# Altium integrated library Actel ProASIC APA FPGA.IntLib: 439 symbols (part 1 of 3)
Pins are listed as number, name and electrical type; pins without a type are passive.

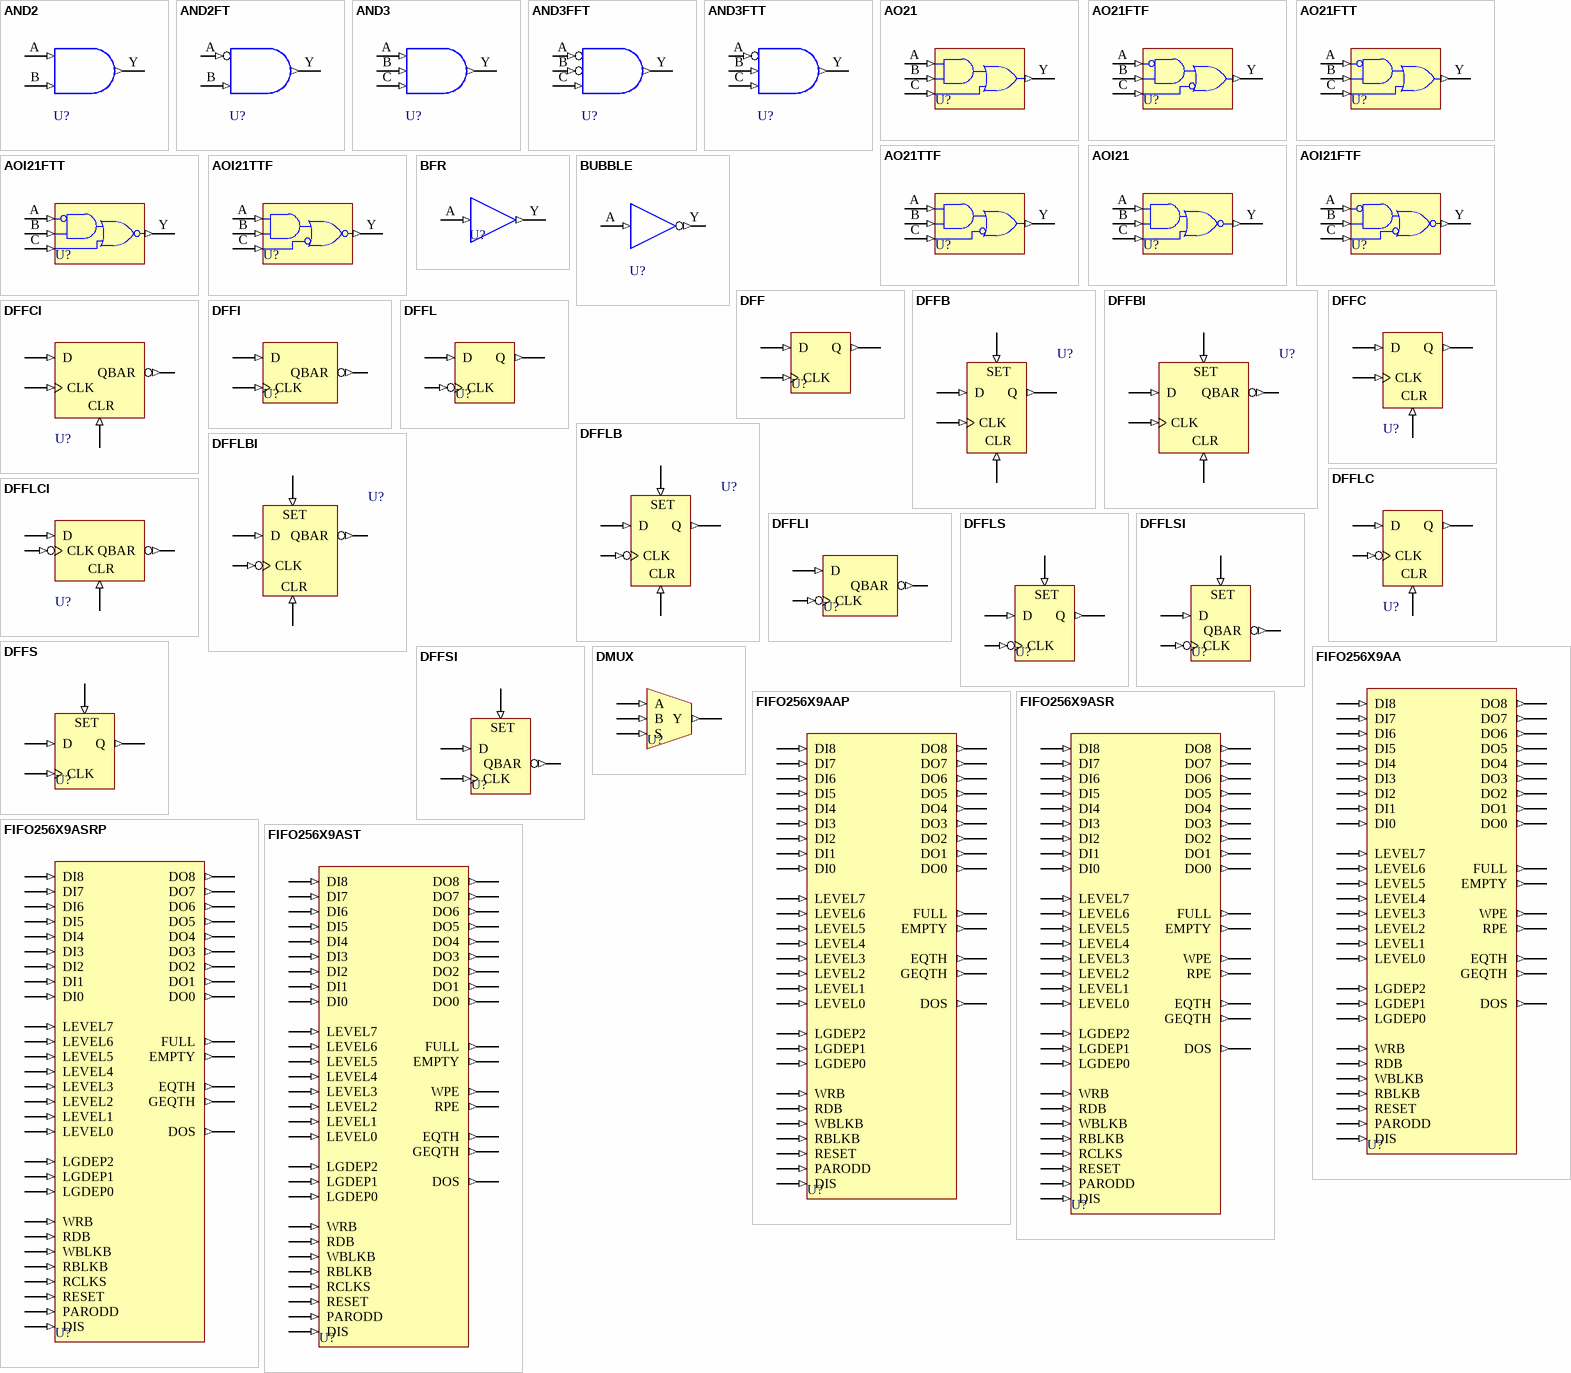
[diagram p0: symbols AND2 to FIFO256X9AST]

## AND2
designator U?
2 Input AND; FPGAVendor: Actel; Published: 21-Jul-2004; Publisher: Altium Limited; HelpURL: http://www.actel.com/documents/PA_libguide.pdf
pins: A (in), B (in), Y (out)

## AND2FT
designator U?
2 Input AND with Active Low A Input; FPGAVendor: Actel; Published: 21-Jul-2004; Publisher: Altium Limited; HelpURL: http://www.actel.com/documents/PA_libguide.pdf
pins: A (in), B (in), Y (out)

## AND3
designator U?
3 Input AND; FPGAVendor: Actel; Published: 21-Jul-2004; Publisher: Altium Limited; HelpURL: http://www.actel.com/documents/PA_libguide.pdf
pins: A (in), B (in), C (in), Y (out)

## AND3FFT
designator U?
3 Input AND with Active Low A and B Inputs; FPGAVendor: Actel; Published: 21-Jul-2004; Publisher: Altium Limited; HelpURL: http://www.actel.com/documents/PA_libguide.pdf
pins: A (in), B (in), C (in), Y (out)

## AND3FTT
designator U?
3 Input AND with Active Low A Input; FPGAVendor: Actel; Published: 21-Jul-2004; Publisher: Altium Limited; HelpURL: http://www.actel.com/documents/PA_libguide.pdf
pins: A (in), B (in), C (in), Y (out)

## AO21
designator U?
3 Input AND-OR; FPGAVendor: Actel; Published: 21-Jul-2004; Publisher: Altium Limited; HelpURL: http://www.actel.com/documents/PA_libguide.pdf
pins: A (in), B (in), C (in), Y (out)

## AO21FTF
designator U?
3 Input AND-OR with Active Low A and C Inputs; FPGAVendor: Actel; Published: 21-Jul-2004; Publisher: Altium Limited; HelpURL: http://www.actel.com/documents/PA_libguide.pdf
pins: A (in), B (in), C (in), Y (out)

## AO21FTT
designator U?
3 Input AND-OR with Active Low A Input; FPGAVendor: Actel; Published: 21-Jul-2004; Publisher: Altium Limited; HelpURL: http://www.actel.com/documents/PA_libguide.pdf
pins: A (in), B (in), C (in), Y (out)

## AO21TTF
designator U?
3 Input AND-OR with Active Low C Input; FPGAVendor: Actel; Published: 21-Jul-2004; Publisher: Altium Limited; HelpURL: http://www.actel.com/documents/PA_libguide.pdf
pins: A (in), B (in), C (in), Y (out)

## AOI21
designator U?
3 Input AND-OR-INVERT; FPGAVendor: Actel; Published: 21-Jul-2004; Publisher: Altium Limited; HelpURL: http://www.actel.com/documents/PA_libguide.pdf
pins: A (in), B (in), C (in), Y (out)

## AOI21FTF
designator U?
3 Input AND-OR-INVERT with Active Low A and C Inputs; FPGAVendor: Actel; Published: 21-Jul-2004; Publisher: Altium Limited; HelpURL: http://www.actel.com/documents/PA_libguide.pdf
pins: A (in), B (in), C (in), Y (out)

## AOI21FTT
designator U?
3 Input AND-OR-INVERT with Active Low A Input; FPGAVendor: Actel; Published: 21-Jul-2004; Publisher: Altium Limited; HelpURL: http://www.actel.com/documents/PA_libguide.pdf
pins: A (in), B (in), C (in), Y (out)

## AOI21TTF
designator U?
3 Input AND-OR-INVERT with Active Low C Input; FPGAVendor: Actel; Published: 21-Jul-2004; Publisher: Altium Limited; HelpURL: http://www.actel.com/documents/PA_libguide.pdf
pins: A (in), B (in), C (in), Y (out)

## BFR
designator U?
Buffer; FPGAVendor: Actel; Published: 21-Jul-2004; Publisher: Altium Limited; HelpURL: http://www.actel.com/documents/PA_libguide.pdf
pins: A (in), Y (out)

## BUBBLE
designator U?
Inverter (Only for internal embedded memory); FPGAVendor: Actel; Published: 21-Jul-2004; Publisher: Altium Limited; HelpURL: http://www.actel.com/documents/PA_libguide.pdf
pins: A (in), Y (out)

## DFF
designator U?
Positive Edge Triggered D-Type Flip-Flop; FPGAVendor: Actel; Published: 21-Jul-2004; Publisher: Altium Limited; HelpURL: http://www.actel.com/documents/PA_libguide.pdf
pins: CLK (in), D (in), Q (out)

## DFFB
designator U?
Positive Edge Triggered D-Type Flip-Flop with Active High Set and Clear; FPGAVendor: Actel; Published: 21-Jul-2004; Publisher: Altium Limited; HelpURL: http://www.actel.com/documents/PA_libguide.pdf
pins: CLK (in), CLR (in), D (in), Q (out), SET (in)

## DFFBI
designator U?
Positive Edge Triggered D-Type Flip-Flop with Active High Set and Clear / and Active Low Output; FPGAVendor: Actel; Published: 21-Jul-2004; Publisher: Altium Limited; HelpURL: http://www.actel.com/documents/PA_libguide.pdf
pins: CLK (in), CLR (in), D (in), QBAR (out), SET (in)

## DFFC
designator U?
Positive Edge Triggered D-Type Flip-Flop with Active High Clear; FPGAVendor: Actel; Published: 21-Jul-2004; Publisher: Altium Limited; HelpURL: http://www.actel.com/documents/PA_libguide.pdf
pins: CLK (in), CLR (in), D (in), Q (out)

## DFFCI
designator U?
Positive Edge Triggered D-Type Flip-Flop with Active High Clear and / Active Low Output; FPGAVendor: Actel; Published: 21-Jul-2004; Publisher: Altium Limited; HelpURL: http://www.actel.com/documents/PA_libguide.pdf
pins: CLK (in), CLR (in), D (in), QBAR (out)

## DFFI
designator U?
Positive Edge Triggered D-Type Flip-Flop with Active Low Output; FPGAVendor: Actel; Published: 21-Jul-2004; Publisher: Altium Limited; HelpURL: http://www.actel.com/documents/PA_libguide.pdf
pins: CLK (in), D (in), QBAR (out)

## DFFL
designator U?
Negative Edge Triggered D-Type Flip-Flop; FPGAVendor: Actel; Published: 21-Jul-2004; Publisher: Altium Limited; HelpURL: http://www.actel.com/documents/PA_libguide.pdf
pins: CLK (in), D (in), Q (out)

## DFFLB
designator U?
Negative Edge Triggered D-Type Flip-Flop with Active High Set and Clear; FPGAVendor: Actel; Published: 21-Jul-2004; Publisher: Altium Limited; HelpURL: http://www.actel.com/documents/PA_libguide.pdf
pins: CLK (in), CLR (in), D (in), Q (out), SET (in)

## DFFLBI
designator U?
Negative Edge Triggered D-Type Flip-Flop with Active High Set and Clear / and Active Low Output; FPGAVendor: Actel; Published: 21-Jul-2004; Publisher: Altium Limited; HelpURL: http://www.actel.com/documents/PA_libguide.pdf
pins: CLK (in), CLR (in), D (in), QBAR (out), SET (in)

## DFFLC
designator U?
Negative Edge Triggered D-Type Flip-Flop with Active High Clear; FPGAVendor: Actel; Published: 21-Jul-2004; Publisher: Altium Limited; HelpURL: http://www.actel.com/documents/PA_libguide.pdf
pins: CLK (in), CLR (in), D (in), Q (out)

## DFFLCI
designator U?
Negative Edge Triggered D-Type Flip-Flop with Active High Clear and / Active Low Output; FPGAVendor: Actel; Published: 21-Jul-2004; Publisher: Altium Limited; HelpURL: http://www.actel.com/documents/PA_libguide.pdf
pins: CLK (in), CLR (in), D (in), QBAR (out)

## DFFLI
designator U?
Negative Edge Triggered D-Type Flip-Flop with Active Low Output; FPGAVendor: Actel; Published: 21-Jul-2004; Publisher: Altium Limited; HelpURL: http://www.actel.com/documents/PA_libguide.pdf
pins: CLK (in), D (in), QBAR (out)

## DFFLS
designator U?
Negative Edge Triggered D-Type Flip-Flop with Active High Set; FPGAVendor: Actel; Published: 21-Jul-2004; Publisher: Altium Limited; HelpURL: http://www.actel.com/documents/PA_libguide.pdf
pins: CLK (in), D (in), Q (out), SET (in)

## DFFLSI
designator U?
Negative Edge Triggered D-Type Flip-Flop with Active High Set and / Active Low Output; FPGAVendor: Actel; Published: 21-Jul-2004; Publisher: Altium Limited; HelpURL: http://www.actel.com/documents/PA_libguide.pdf
pins: CLK (in), D (in), QBAR (out), SET (in)

## DFFS
designator U?
Positive Edge Triggered D-Type Flip-Flop with Active High Set; FPGAVendor: Actel; Published: 21-Jul-2004; Publisher: Altium Limited; HelpURL: http://www.actel.com/documents/PA_libguide.pdf
pins: CLK (in), D (in), Q (out), SET (in)

## DFFSI
designator U?
Positive Edge Triggered D-Type Flip-Flop with Active High Set and Active / Low Output; FPGAVendor: Actel; Published: 21-Jul-2004; Publisher: Altium Limited; HelpURL: http://www.actel.com/documents/PA_libguide.pdf
pins: CLK (in), D (in), QBAR (out), SET (in)

## DMUX
designator U?
2 to 1 Multiplexer; FPGAVendor: Actel; Published: 21-Jul-2004; Publisher: Altium Limited; HelpURL: http://www.actel.com/documents/PA_libguide.pdf
pins: A (in), B (in), S (in), Y (out)

## FIFO256X9AA
designator U?
Asynchronous Write/Asynchronous Read FIFO with Parity Checking; FPGAVendor: Actel; Published: 21-Jul-2004; Publisher: Altium Limited; HelpURL: http://www.actel.com/documents/PA_libguide.pdf
pins: DI0 (in), DI1 (in), DI2 (in), DI3 (in), DI4 (in), DI5 (in), DI6 (in), DI7 (in), DI8 (in), DIS (in), DO0 (out), DO1 (out), DO2 (out), DO3 (out), DO4 (out), DO5 (out), DO6 (out), DO7 (out), DO8 (out), DOS (out), EMPTY (out), EQTH (out), FULL (out), GEQTH (out), LEVEL0 (in), LEVEL1 (in), LEVEL2 (in), LEVEL3 (in), LEVEL4 (in), LEVEL5 (in), LEVEL6 (in), LEVEL7 (in), LGDEP0 (in), LGDEP1 (in), LGDEP2 (in), PARODD (in), RBLKB (in), RDB (in), RESET (in), RPE (out), WBLKB (in), WPE (out), WRB (in)

## FIFO256X9AAP
designator U?
Asynchronous Write/Asynchronous Read FIFO with Parity Generation; FPGAVendor: Actel; Published: 21-Jul-2004; Publisher: Altium Limited; HelpURL: http://www.actel.com/documents/PA_libguide.pdf
pins: DI0 (in), DI1 (in), DI2 (in), DI3 (in), DI4 (in), DI5 (in), DI6 (in), DI7 (in), DI8 (in), DIS (in), DO0 (out), DO1 (out), DO2 (out), DO3 (out), DO4 (out), DO5 (out), DO6 (out), DO7 (out), DO8 (out), DOS (out), EMPTY (out), EQTH (out), FULL (out), GEQTH (out), LEVEL0 (in), LEVEL1 (in), LEVEL2 (in), LEVEL3 (in), LEVEL4 (in), LEVEL5 (in), LEVEL6 (in), LEVEL7 (in), LGDEP0 (in), LGDEP1 (in), LGDEP2 (in), PARODD (in), RBLKB (in), RDB (in), RESET (in), WBLKB (in), WRB (in)

## FIFO256X9ASR
designator U?
Asynchronous Write/Synchronous Read FIFO with Registered Output and Parity Checking; FPGAVendor: Actel; Published: 21-Jul-2004; Publisher: Altium Limited; HelpURL: http://www.actel.com/documents/PA_libguide.pdf
pins: DI0 (in), DI1 (in), DI2 (in), DI3 (in), DI4 (in), DI5 (in), DI6 (in), DI7 (in), DI8 (in), DIS (in), DO0 (out), DO1 (out), DO2 (out), DO3 (out), DO4 (out), DO5 (out), DO6 (out), DO7 (out), DO8 (out), DOS (out), EMPTY (out), EQTH (out), FULL (out), GEQTH (out), LEVEL0 (in), LEVEL1 (in), LEVEL2 (in), LEVEL3 (in), LEVEL4 (in), LEVEL5 (in), LEVEL6 (in), LEVEL7 (in), LGDEP0 (in), LGDEP1 (in), LGDEP2 (in), PARODD (in), RBLKB (in), RCLKS (in), RDB (in), RESET (in), RPE (out), WBLKB (in), WPE (out), WRB (in)

## FIFO256X9ASRP
designator U?
Asynchronous Write/Synchronous Read FIFO with Registered Output and Parity Generation; FPGAVendor: Actel; Published: 21-Jul-2004; Publisher: Altium Limited; HelpURL: http://www.actel.com/documents/PA_libguide.pdf
pins: DI0 (in), DI1 (in), DI2 (in), DI3 (in), DI4 (in), DI5 (in), DI6 (in), DI7 (in), DI8 (in), DIS (in), DO0 (out), DO1 (out), DO2 (out), DO3 (out), DO4 (out), DO5 (out), DO6 (out), DO7 (out), DO8 (out), DOS (out), EMPTY (out), EQTH (out), FULL (out), GEQTH (out), LEVEL0 (in), LEVEL1 (in), LEVEL2 (in), LEVEL3 (in), LEVEL4 (in), LEVEL5 (in), LEVEL6 (in), LEVEL7 (in), LGDEP0 (in), LGDEP1 (in), LGDEP2 (in), PARODD (in), RBLKB (in), RCLKS (in), RDB (in), RESET (in), WBLKB (in), WRB (in)

## FIFO256X9AST
designator U?
Asynchronous Write/Synchronous Read FIFO with Transparent Output and Parity Checking; FPGAVendor: Actel; Published: 21-Jul-2004; Publisher: Altium Limited; HelpURL: http://www.actel.com/documents/PA_libguide.pdf
pins: DI0 (in), DI1 (in), DI2 (in), DI3 (in), DI4 (in), DI5 (in), DI6 (in), DI7 (in), DI8 (in), DIS (in), DO0 (out), DO1 (out), DO2 (out), DO3 (out), DO4 (out), DO5 (out), DO6 (out), DO7 (out), DO8 (out), DOS (out), EMPTY (out), EQTH (out), FULL (out), GEQTH (out), LEVEL0 (in), LEVEL1 (in), LEVEL2 (in), LEVEL3 (in), LEVEL4 (in), LEVEL5 (in), LEVEL6 (in), LEVEL7 (in), LGDEP0 (in), LGDEP1 (in), LGDEP2 (in), PARODD (in), RBLKB (in), RCLKS (in), RDB (in), RESET (in), RPE (out), WBLKB (in), WPE (out), WRB (in)

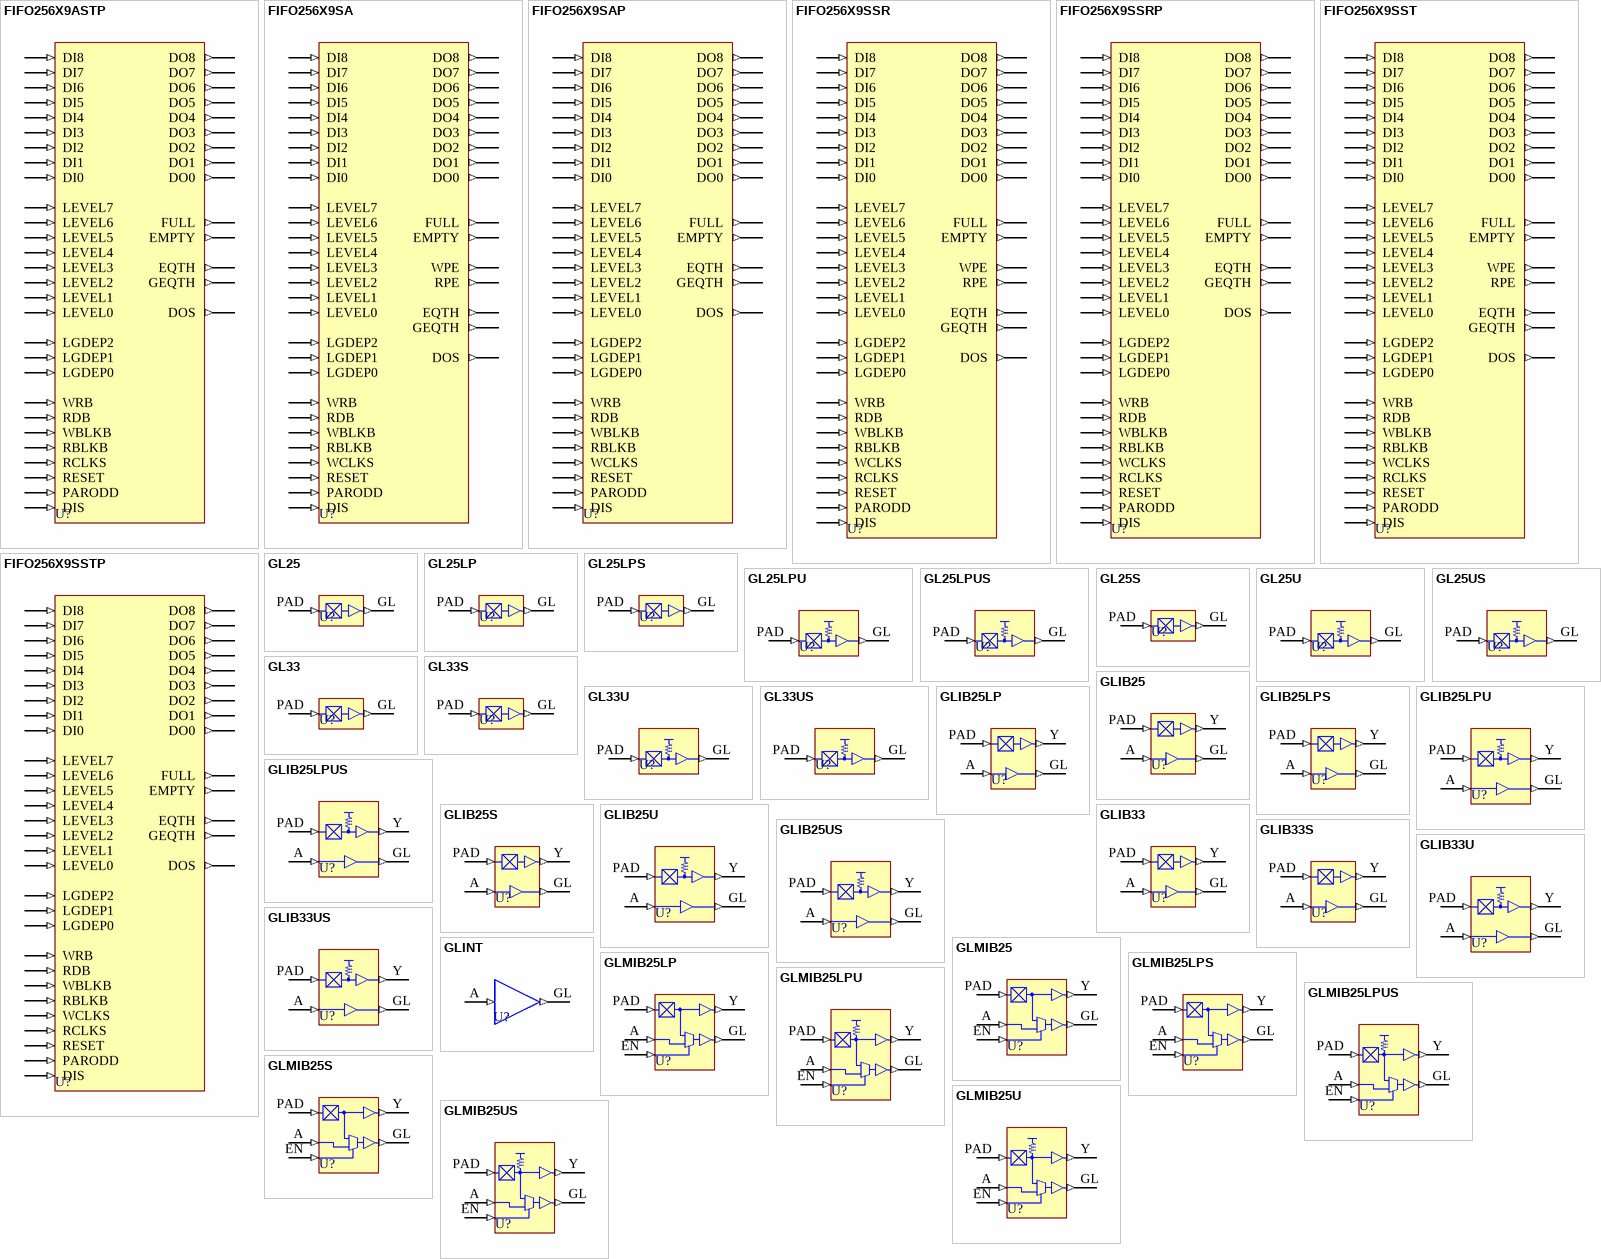
[diagram p1: symbols FIFO256X9ASTP to GLMIB25US]

## FIFO256X9ASTP
designator U?
Asynchronous Write/Synchronous Read FIFO with Transparent Output and Parity Generation; FPGAVendor: Actel; Published: 21-Jul-2004; Publisher: Altium Limited; HelpURL: http://www.actel.com/documents/PA_libguide.pdf
pins: DI0 (in), DI1 (in), DI2 (in), DI3 (in), DI4 (in), DI5 (in), DI6 (in), DI7 (in), DI8 (in), DIS (in), DO0 (out), DO1 (out), DO2 (out), DO3 (out), DO4 (out), DO5 (out), DO6 (out), DO7 (out), DO8 (out), DOS (out), EMPTY (out), EQTH (out), FULL (out), GEQTH (out), LEVEL0 (in), LEVEL1 (in), LEVEL2 (in), LEVEL3 (in), LEVEL4 (in), LEVEL5 (in), LEVEL6 (in), LEVEL7 (in), LGDEP0 (in), LGDEP1 (in), LGDEP2 (in), PARODD (in), RBLKB (in), RCLKS (in), RDB (in), RESET (in), WBLKB (in), WRB (in)

## FIFO256X9SA
designator U?
Synchronous Write/Asynchronous Read FIFO with Parity Checking; FPGAVendor: Actel; Published: 21-Jul-2004; Publisher: Altium Limited; HelpURL: http://www.actel.com/documents/PA_libguide.pdf
pins: DI0 (in), DI1 (in), DI2 (in), DI3 (in), DI4 (in), DI5 (in), DI6 (in), DI7 (in), DI8 (in), DIS (in), DO0 (out), DO1 (out), DO2 (out), DO3 (out), DO4 (out), DO5 (out), DO6 (out), DO7 (out), DO8 (out), DOS (out), EMPTY (out), EQTH (out), FULL (out), GEQTH (out), LEVEL0 (in), LEVEL1 (in), LEVEL2 (in), LEVEL3 (in), LEVEL4 (in), LEVEL5 (in), LEVEL6 (in), LEVEL7 (in), LGDEP0 (in), LGDEP1 (in), LGDEP2 (in), PARODD (in), RBLKB (in), RDB (in), RESET (in), RPE (out), WBLKB (in), WCLKS (in), WPE (out), WRB (in)

## FIFO256X9SAP
designator U?
Synchronous Write/Asynchronous Read FIFO with Parity Generation; FPGAVendor: Actel; Published: 21-Jul-2004; Publisher: Altium Limited; HelpURL: http://www.actel.com/documents/PA_libguide.pdf
pins: DI0 (in), DI1 (in), DI2 (in), DI3 (in), DI4 (in), DI5 (in), DI6 (in), DI7 (in), DI8 (in), DIS (in), DO0 (out), DO1 (out), DO2 (out), DO3 (out), DO4 (out), DO5 (out), DO6 (out), DO7 (out), DO8 (out), DOS (out), EMPTY (out), EQTH (out), FULL (out), GEQTH (out), LEVEL0 (in), LEVEL1 (in), LEVEL2 (in), LEVEL3 (in), LEVEL4 (in), LEVEL5 (in), LEVEL6 (in), LEVEL7 (in), LGDEP0 (in), LGDEP1 (in), LGDEP2 (in), PARODD (in), RBLKB (in), RDB (in), RESET (in), WBLKB (in), WCLKS (in), WRB (in)

## FIFO256X9SSR
designator U?
Synchronous Write/Synchronous Read FIFO with Registered Output and Parity Checking; FPGAVendor: Actel; Published: 21-Jul-2004; Publisher: Altium Limited; HelpURL: http://www.actel.com/documents/PA_libguide.pdf
pins: DI0 (in), DI1 (in), DI2 (in), DI3 (in), DI4 (in), DI5 (in), DI6 (in), DI7 (in), DI8 (in), DIS (in), DO0 (out), DO1 (out), DO2 (out), DO3 (out), DO4 (out), DO5 (out), DO6 (out), DO7 (out), DO8 (out), DOS (out), EMPTY (out), EQTH (out), FULL (out), GEQTH (out), LEVEL0 (in), LEVEL1 (in), LEVEL2 (in), LEVEL3 (in), LEVEL4 (in), LEVEL5 (in), LEVEL6 (in), LEVEL7 (in), LGDEP0 (in), LGDEP1 (in), LGDEP2 (in), PARODD (in), RBLKB (in), RCLKS (in), RDB (in), RESET (in), RPE (out), WBLKB (in), WCLKS (in), WPE (out), WRB (in)

## FIFO256X9SSRP
designator U?
Synchronous Write/Synchronous Read FIFO with Registered Output and Parity Generation; FPGAVendor: Actel; Published: 21-Jul-2004; Publisher: Altium Limited; HelpURL: http://www.actel.com/documents/PA_libguide.pdf
pins: DI0 (in), DI1 (in), DI2 (in), DI3 (in), DI4 (in), DI5 (in), DI6 (in), DI7 (in), DI8 (in), DIS (in), DO0 (out), DO1 (out), DO2 (out), DO3 (out), DO4 (out), DO5 (out), DO6 (out), DO7 (out), DO8 (out), DOS (out), EMPTY (out), EQTH (out), FULL (out), GEQTH (out), LEVEL0 (in), LEVEL1 (in), LEVEL2 (in), LEVEL3 (in), LEVEL4 (in), LEVEL5 (in), LEVEL6 (in), LEVEL7 (in), LGDEP0 (in), LGDEP1 (in), LGDEP2 (in), PARODD (in), RBLKB (in), RCLKS (in), RDB (in), RESET (in), WBLKB (in), WCLKS (in), WRB (in)

## FIFO256X9SST
designator U?
Synchronous Write/Synchronous Read FIFO with Transparent Output and Parity Checking; FPGAVendor: Actel; Published: 21-Jul-2004; Publisher: Altium Limited; HelpURL: http://www.actel.com/documents/PA_libguide.pdf
pins: DI0 (in), DI1 (in), DI2 (in), DI3 (in), DI4 (in), DI5 (in), DI6 (in), DI7 (in), DI8 (in), DIS (in), DO0 (out), DO1 (out), DO2 (out), DO3 (out), DO4 (out), DO5 (out), DO6 (out), DO7 (out), DO8 (out), DOS (out), EMPTY (out), EQTH (out), FULL (out), GEQTH (out), LEVEL0 (in), LEVEL1 (in), LEVEL2 (in), LEVEL3 (in), LEVEL4 (in), LEVEL5 (in), LEVEL6 (in), LEVEL7 (in), LGDEP0 (in), LGDEP1 (in), LGDEP2 (in), PARODD (in), RBLKB (in), RCLKS (in), RDB (in), RESET (in), RPE (out), WBLKB (in), WCLKS (in), WPE (out), WRB (in)

## FIFO256X9SSTP
designator U?
Synchronous Write/Synchronous Read FIFO with Transparent Output and Parity Generation; FPGAVendor: Actel; Published: 21-Jul-2004; Publisher: Altium Limited; HelpURL: http://www.actel.com/documents/PA_libguide.pdf
pins: DI0 (in), DI1 (in), DI2 (in), DI3 (in), DI4 (in), DI5 (in), DI6 (in), DI7 (in), DI8 (in), DIS (in), DO0 (out), DO1 (out), DO2 (out), DO3 (out), DO4 (out), DO5 (out), DO6 (out), DO7 (out), DO8 (out), DOS (out), EMPTY (out), EQTH (out), FULL (out), GEQTH (out), LEVEL0 (in), LEVEL1 (in), LEVEL2 (in), LEVEL3 (in), LEVEL4 (in), LEVEL5 (in), LEVEL6 (in), LEVEL7 (in), LGDEP0 (in), LGDEP1 (in), LGDEP2 (in), PARODD (in), RBLKB (in), RCLKS (in), RDB (in), RESET (in), WBLKB (in), WCLKS (in), WRB (in)

## GL25
designator U?
2.5 Volt CMOS input levels; FPGAVendor: Actel; Published: 21-Jul-2004; Publisher: Altium Limited; HelpURL: http://www.actel.com/documents/PA_libguide.pdf
pins: GL (out), PAD (in)

## GL25LP
designator U?
2.5 Volt CMOS input levels, low power; FPGAVendor: Actel; Published: 21-Jul-2004; Publisher: Altium Limited; HelpURL: http://www.actel.com/documents/PA_libguide.pdf
pins: GL (out), PAD (in)

## GL25LPS
designator U?
2.5 Volt CMOS input levels, low power, Schmitt Trigger; FPGAVendor: Actel; Published: 21-Jul-2004; Publisher: Altium Limited; HelpURL: http://www.actel.com/documents/PA_libguide.pdf
pins: GL (out), PAD (in)

## GL25LPU
designator U?
2.5 Volt CMOS input levels, low power, with pull-up resistor; FPGAVendor: Actel; Published: 21-Jul-2004; Publisher: Altium Limited; HelpURL: http://www.actel.com/documents/PA_libguide.pdf
pins: GL (out), PAD (in)

## GL25LPUS
designator U?
2.5 Volt CMOS input levels, low power, with pull-up resistor, Schmitt Trigger; FPGAVendor: Actel; Published: 21-Jul-2004; Publisher: Altium Limited; HelpURL: http://www.actel.com/documents/PA_libguide.pdf
pins: GL (out), PAD (in)

## GL25S
designator U?
2.5 Volt CMOS input levels, Schmitt Trigger; FPGAVendor: Actel; Published: 21-Jul-2004; Publisher: Altium Limited; HelpURL: http://www.actel.com/documents/PA_libguide.pdf
pins: GL (out), PAD (in)

## GL25U
designator U?
2.5 Volt CMOS input levels, with pull-up resistor; FPGAVendor: Actel; Published: 21-Jul-2004; Publisher: Altium Limited; HelpURL: http://www.actel.com/documents/PA_libguide.pdf
pins: GL (out), PAD (in)

## GL25US
designator U?
2.5 Volt CMOS input levels, with pull-up resistor, Schmitt Trigger; FPGAVendor: Actel; Published: 21-Jul-2004; Publisher: Altium Limited; HelpURL: http://www.actel.com/documents/PA_libguide.pdf
pins: GL (out), PAD (in)

## GL33
designator U?
3.3 Volt CMOS input levels; FPGAVendor: Actel; Published: 21-Jul-2004; Publisher: Altium Limited; HelpURL: http://www.actel.com/documents/PA_libguide.pdf
pins: GL (out), PAD (in)

## GL33S
designator U?
3.3 Volt CMOS input levels, Schmitt Trigger; FPGAVendor: Actel; Published: 21-Jul-2004; Publisher: Altium Limited; HelpURL: http://www.actel.com/documents/PA_libguide.pdf
pins: GL (out), PAD (in)

## GL33U
designator U?
3.3 Volt CMOS input levels, with pull-up resistor; FPGAVendor: Actel; Published: 21-Jul-2004; Publisher: Altium Limited; HelpURL: http://www.actel.com/documents/PA_libguide.pdf
pins: GL (out), PAD (in)

## GL33US
designator U?
3.3 Volt CMOS input levels, with pull-up resistor, Schmitt Trigger; FPGAVendor: Actel; Published: 21-Jul-2004; Publisher: Altium Limited; HelpURL: http://www.actel.com/documents/PA_libguide.pdf
pins: GL (out), PAD (in)

## GLIB25
designator U?
2.5 Volt CMOS input levels; FPGAVendor: Actel; Published: 21-Jul-2004; Publisher: Altium Limited; HelpURL: http://www.actel.com/documents/PA_libguide.pdf
pins: A (in), GL (out), PAD (in), Y (out)

## GLIB25LP
designator U?
2.5 Volt CMOS input levels, low power; FPGAVendor: Actel; Published: 21-Jul-2004; Publisher: Altium Limited; HelpURL: http://www.actel.com/documents/PA_libguide.pdf
pins: A (in), GL (out), PAD (in), Y (out)

## GLIB25LPS
designator U?
2.5 Volt CMOS input levels, low power, Schmitt Trigger; FPGAVendor: Actel; Published: 21-Jul-2004; Publisher: Altium Limited; HelpURL: http://www.actel.com/documents/PA_libguide.pdf
pins: A (in), GL (out), PAD (in), Y (out)

## GLIB25LPU
designator U?
2.5 Volt CMOS input levels, low power, with pull-up resistor; FPGAVendor: Actel; Published: 21-Jul-2004; Publisher: Altium Limited; HelpURL: http://www.actel.com/documents/PA_libguide.pdf
pins: A (in), GL (out), PAD (in), Y (out)

## GLIB25LPUS
designator U?
2.5 Volt CMOS input levels, low power, with pull-up resistor and Schmitt Trigger; FPGAVendor: Actel; Published: 21-Jul-2004; Publisher: Altium Limited; HelpURL: http://www.actel.com/documents/PA_libguide.pdf
pins: A (in), GL (out), PAD (in), Y (out)

## GLIB25S
designator U?
2.5 Volt CMOS input levels, Schmitt Trigger; FPGAVendor: Actel; Published: 21-Jul-2004; Publisher: Altium Limited; HelpURL: http://www.actel.com/documents/PA_libguide.pdf
pins: A (in), GL (out), PAD (in), Y (out)

## GLIB25U
designator U?
2.5 Volt CMOS input levels, with pull-up resistor; FPGAVendor: Actel; Published: 21-Jul-2004; Publisher: Altium Limited; HelpURL: http://www.actel.com/documents/PA_libguide.pdf
pins: A (in), GL (out), PAD (in), Y (out)

## GLIB25US
designator U?
2.5 Volt CMOS input levels, with pull-up resistor and Schmitt Trigger; FPGAVendor: Actel; Published: 21-Jul-2004; Publisher: Altium Limited; HelpURL: http://www.actel.com/documents/PA_libguide.pdf
pins: A (in), GL (out), PAD (in), Y (out)

## GLIB33
designator U?
3.3 Volt CMOS input levels; FPGAVendor: Actel; Published: 21-Jul-2004; Publisher: Altium Limited; HelpURL: http://www.actel.com/documents/PA_libguide.pdf
pins: A (in), GL (out), PAD (in), Y (out)

## GLIB33S
designator U?
3.3 Volt CMOS input levels, Schmitt Trigger; FPGAVendor: Actel; Published: 21-Jul-2004; Publisher: Altium Limited; HelpURL: http://www.actel.com/documents/PA_libguide.pdf
pins: A (in), GL (out), PAD (in), Y (out)

## GLIB33U
designator U?
3.3 Volt CMOS input levels, with pull-up resistor; FPGAVendor: Actel; Published: 21-Jul-2004; Publisher: Altium Limited; HelpURL: http://www.actel.com/documents/PA_libguide.pdf
pins: A (in), GL (out), PAD (in), Y (out)

## GLIB33US
designator U?
3.3 Volt CMOS input levels, with pull-up resistor and Schmitt Trigger; FPGAVendor: Actel; Published: 21-Jul-2004; Publisher: Altium Limited; HelpURL: http://www.actel.com/documents/PA_libguide.pdf
pins: A (in), GL (out), PAD (in), Y (out)

## GLINT
designator U?
Global Buffer with Internal Connection; FPGAVendor: Actel; Published: 21-Jul-2004; Publisher: Altium Limited; HelpURL: http://www.actel.com/documents/PA_libguide.pdf
pins: A (in), GL (out)

## GLMIB25
designator U?
2.5 Volt CMOS input levels; FPGAVendor: Actel; Published: 21-Jul-2004; Publisher: Altium Limited; HelpURL: http://www.actel.com/documents/PA_libguide.pdf
pins: A (in), EN (in), GL (out), PAD (in), Y (out)

## GLMIB25LP
designator U?
2.5 Volt CMOS input levels, low power; FPGAVendor: Actel; Published: 21-Jul-2004; Publisher: Altium Limited; HelpURL: http://www.actel.com/documents/PA_libguide.pdf
pins: A (in), EN (in), GL (out), PAD (in), Y (out)

## GLMIB25LPS
designator U?
2.5 Volt CMOS input levels, low power, Schmitt Trigger; FPGAVendor: Actel; Published: 21-Jul-2004; Publisher: Altium Limited; HelpURL: http://www.actel.com/documents/PA_libguide.pdf
pins: A (in), EN (in), GL (out), PAD (in), Y (out)

## GLMIB25LPU
designator U?
2.5 Volt CMOS input levels, low power, with pull-up resistor; FPGAVendor: Actel; Published: 21-Jul-2004; Publisher: Altium Limited; HelpURL: http://www.actel.com/documents/PA_libguide.pdf
pins: A (in), EN (in), GL (out), PAD (in), Y (out)

## GLMIB25LPUS
designator U?
2.5 Volt CMOS input levels, low power, with pull-up resistor and Schmitt Trigger; FPGAVendor: Actel; Published: 21-Jul-2004; Publisher: Altium Limited; HelpURL: http://www.actel.com/documents/PA_libguide.pdf
pins: A (in), EN (in), GL (out), PAD (in), Y (out)

## GLMIB25S
designator U?
2.5 Volt CMOS input levels, Schmitt Trigger; FPGAVendor: Actel; Published: 21-Jul-2004; Publisher: Altium Limited; HelpURL: http://www.actel.com/documents/PA_libguide.pdf
pins: A (in), EN (in), GL (out), PAD (in), Y (out)

## GLMIB25U
designator U?
2.5 Volt CMOS input levels, with pull-up resistor; FPGAVendor: Actel; Published: 21-Jul-2004; Publisher: Altium Limited; HelpURL: http://www.actel.com/documents/PA_libguide.pdf
pins: A (in), EN (in), GL (out), PAD (in), Y (out)

## GLMIB25US
designator U?
2.5 Volt CMOS input levels, with pull-up resistor and Schmitt Trigger; FPGAVendor: Actel; Published: 21-Jul-2004; Publisher: Altium Limited; HelpURL: http://www.actel.com/documents/PA_libguide.pdf
pins: A (in), EN (in), GL (out), PAD (in), Y (out)

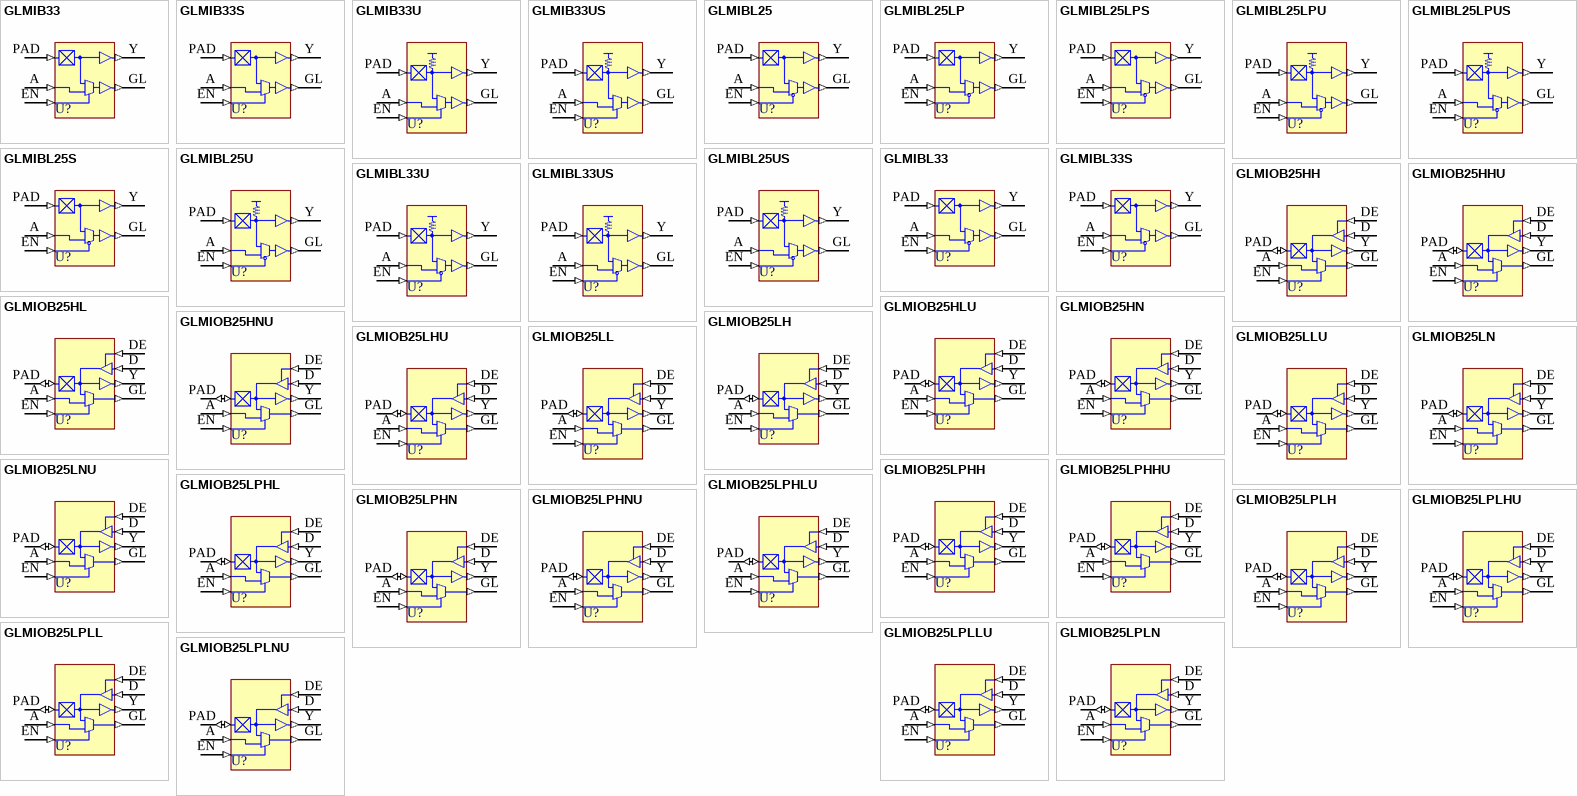
[diagram p2: symbols GLMIB33 to GLMIOB25LPLNU]

## GLMIB33
designator U?
3.3 Volt CMOS input levels; FPGAVendor: Actel; Published: 21-Jul-2004; Publisher: Altium Limited; HelpURL: http://www.actel.com/documents/PA_libguide.pdf
pins: A (in), EN (in), GL (out), PAD (in), Y (out)

## GLMIB33S
designator U?
3.3 Volt CMOS input levels, Schmitt Trigger; FPGAVendor: Actel; Published: 21-Jul-2004; Publisher: Altium Limited; HelpURL: http://www.actel.com/documents/PA_libguide.pdf
pins: A (in), EN (in), GL (out), PAD (in), Y (out)

## GLMIB33U
designator U?
3.3 Volt CMOS input levels, with pull-up resistor; FPGAVendor: Actel; Published: 21-Jul-2004; Publisher: Altium Limited; HelpURL: http://www.actel.com/documents/PA_libguide.pdf
pins: A (in), EN (in), GL (out), PAD (in), Y (out)

## GLMIB33US
designator U?
3.3 Volt CMOS input levels, with pull-up resistor and Schmitt Trigger; FPGAVendor: Actel; Published: 21-Jul-2004; Publisher: Altium Limited; HelpURL: http://www.actel.com/documents/PA_libguide.pdf
pins: A (in), EN (in), GL (out), PAD (in), Y (out)

## GLMIBL25
designator U?
2.5 Volt CMOS input levels; FPGAVendor: Actel; Published: 21-Jul-2004; Publisher: Altium Limited; HelpURL: http://www.actel.com/documents/PA_libguide.pdf
pins: A (in), EN (in), GL (out), PAD (in), Y (out)

## GLMIBL25LP
designator U?
2.5 Volt CMOS input levels, low power; FPGAVendor: Actel; Published: 21-Jul-2004; Publisher: Altium Limited; HelpURL: http://www.actel.com/documents/PA_libguide.pdf
pins: A (in), EN (in), GL (out), PAD (in), Y (out)

## GLMIBL25LPS
designator U?
2.5 Volt CMOS input levels, low power, Schmitt Trigger; FPGAVendor: Actel; Published: 21-Jul-2004; Publisher: Altium Limited; HelpURL: http://www.actel.com/documents/PA_libguide.pdf
pins: A (in), EN (in), GL (out), PAD (in), Y (out)

## GLMIBL25LPU
designator U?
2.5 Volt CMOS input levels, low power, with pull-up resistor; FPGAVendor: Actel; Published: 21-Jul-2004; Publisher: Altium Limited; HelpURL: http://www.actel.com/documents/PA_libguide.pdf
pins: A (in), EN (in), GL (out), PAD (in), Y (out)

## GLMIBL25LPUS
designator U?
2.5 Volt CMOS input levels, low power, with pull-up resistor and Schmitt Trigger; FPGAVendor: Actel; Published: 21-Jul-2004; Publisher: Altium Limited; HelpURL: http://www.actel.com/documents/PA_libguide.pdf
pins: A (in), EN (in), GL (out), PAD (in), Y (out)

## GLMIBL25S
designator U?
2.5 Volt CMOS input levels, Schmitt Trigger; FPGAVendor: Actel; Published: 21-Jul-2004; Publisher: Altium Limited; HelpURL: http://www.actel.com/documents/PA_libguide.pdf
pins: A (in), EN (in), GL (out), PAD (in), Y (out)

## GLMIBL25U
designator U?
2.5 Volt CMOS input levels, with pull-up resistor; FPGAVendor: Actel; Published: 21-Jul-2004; Publisher: Altium Limited; HelpURL: http://www.actel.com/documents/PA_libguide.pdf
pins: A (in), EN (in), GL (out), PAD (in), Y (out)

## GLMIBL25US
designator U?
2.5 Volt CMOS input levels, with pull-up resistor and Schmitt Trigger; FPGAVendor: Actel; Published: 21-Jul-2004; Publisher: Altium Limited; HelpURL: http://www.actel.com/documents/PA_libguide.pdf
pins: A (in), EN (in), GL (out), PAD (in), Y (out)

## GLMIBL33
designator U?
3.3 Volt CMOS input levels; FPGAVendor: Actel; Published: 21-Jul-2004; Publisher: Altium Limited; HelpURL: http://www.actel.com/documents/PA_libguide.pdf
pins: A (in), EN (in), GL (out), PAD (in), Y (out)

## GLMIBL33S
designator U?
3.3 Volt CMOS input levels, Schmitt Trigger; FPGAVendor: Actel; Published: 21-Jul-2004; Publisher: Altium Limited; HelpURL: http://www.actel.com/documents/PA_libguide.pdf
pins: A (in), EN (in), GL (out), PAD (in), Y (out)

## GLMIBL33U
designator U?
3.3 Volt CMOS input levels, with pull-up resistor; FPGAVendor: Actel; Published: 21-Jul-2004; Publisher: Altium Limited; HelpURL: http://www.actel.com/documents/PA_libguide.pdf
pins: A (in), EN (in), GL (out), PAD (in), Y (out)

## GLMIBL33US
designator U?
3.3 Volt CMOS input levels, with pull-up resistor and Schmitt Trigger; FPGAVendor: Actel; Published: 21-Jul-2004; Publisher: Altium Limited; HelpURL: http://www.actel.com/documents/PA_libguide.pdf
pins: A (in), EN (in), GL (out), PAD (in), Y (out)

## GLMIOB25HH
designator U?
2.5 Volt CMOS input levels, high power, high slew; FPGAVendor: Actel; Published: 21-Jul-2004; Publisher: Altium Limited; HelpURL: http://www.actel.com/documents/PA_libguide.pdf
pins: A (in), D (in), DE (in), EN (in), GL (out), PAD (io), Y (out)

## GLMIOB25HHU
designator U?
2.5 Volt CMOS input levels, high power, high slew, w/ pull-up resistor; FPGAVendor: Actel; Published: 21-Jul-2004; Publisher: Altium Limited; HelpURL: http://www.actel.com/documents/PA_libguide.pdf
pins: A (in), D (in), DE (in), EN (in), GL (out), PAD (io), Y (out)

## GLMIOB25HL
designator U?
2.5 Volt CMOS input levels, high power, low slew; FPGAVendor: Actel; Published: 21-Jul-2004; Publisher: Altium Limited; HelpURL: http://www.actel.com/documents/PA_libguide.pdf
pins: A (in), D (in), DE (in), EN (in), GL (out), PAD (io), Y (out)

## GLMIOB25HLU
designator U?
2.5 Volt CMOS input levels, high power, low slew, w/ pull-up resistor; FPGAVendor: Actel; Published: 21-Jul-2004; Publisher: Altium Limited; HelpURL: http://www.actel.com/documents/PA_libguide.pdf
pins: A (in), D (in), DE (in), EN (in), GL (out), PAD (io), Y (out)

## GLMIOB25HN
designator U?
2.5 Volt CMOS input levels, high power, normal slew; FPGAVendor: Actel; Published: 21-Jul-2004; Publisher: Altium Limited; HelpURL: http://www.actel.com/documents/PA_libguide.pdf
pins: A (in), D (in), DE (in), EN (in), GL (out), PAD (io), Y (out)

## GLMIOB25HNU
designator U?
2.5 Volt CMOS input levels, high power, normal slew, w/ pull-up resistor; FPGAVendor: Actel; Published: 21-Jul-2004; Publisher: Altium Limited; HelpURL: http://www.actel.com/documents/PA_libguide.pdf
pins: A (in), D (in), DE (in), EN (in), GL (out), PAD (io), Y (out)

## GLMIOB25LH
designator U?
2.5 Volt CMOS input levels, low power, high slew; FPGAVendor: Actel; Published: 21-Jul-2004; Publisher: Altium Limited; HelpURL: http://www.actel.com/documents/PA_libguide.pdf
pins: A (in), D (in), DE (in), EN (in), GL (out), PAD (io), Y (out)

## GLMIOB25LHU
designator U?
2.5 Volt CMOS input levels, low power, high slew, w/ pull-up resistor; FPGAVendor: Actel; Published: 21-Jul-2004; Publisher: Altium Limited; HelpURL: http://www.actel.com/documents/PA_libguide.pdf
pins: A (in), D (in), DE (in), EN (in), GL (out), PAD (io), Y (out)

## GLMIOB25LL
designator U?
2.5 Volt CMOS input levels, low power, low slew; FPGAVendor: Actel; Published: 21-Jul-2004; Publisher: Altium Limited; HelpURL: http://www.actel.com/documents/PA_libguide.pdf
pins: A (in), D (in), DE (in), EN (in), GL (out), PAD (io), Y (out)

## GLMIOB25LLU
designator U?
2.5 Volt CMOS input levels, low power, low slew, w/ pull-up resistor; FPGAVendor: Actel; Published: 21-Jul-2004; Publisher: Altium Limited; HelpURL: http://www.actel.com/documents/PA_libguide.pdf
pins: A (in), D (in), DE (in), EN (in), GL (out), PAD (io), Y (out)

## GLMIOB25LN
designator U?
2.5 Volt CMOS input levels, low power, normal slew; FPGAVendor: Actel; Published: 21-Jul-2004; Publisher: Altium Limited; HelpURL: http://www.actel.com/documents/PA_libguide.pdf
pins: A (in), D (in), DE (in), EN (in), GL (out), PAD (io), Y (out)

## GLMIOB25LNU
designator U?
2.5 Volt CMOS input levels, low power, normal slew, w/ pull up resistor; FPGAVendor: Actel; Published: 21-Jul-2004; Publisher: Altium Limited; HelpURL: http://www.actel.com/documents/PA_libguide.pdf
pins: A (in), D (in), DE (in), EN (in), GL (out), PAD (io), Y (out)

## GLMIOB25LPHH
designator U?
2.5 Volt CMOS input levels, low power, high strength, high slew; FPGAVendor: Actel; Published: 21-Jul-2004; Publisher: Altium Limited; HelpURL: http://www.actel.com/documents/PA_libguide.pdf
pins: A (in), D (in), DE (in), EN (in), GL (out), PAD (io), Y (out)

## GLMIOB25LPHHU
designator U?
2.5 Volt CMOS input levels, low power, high strength, high slew, w/ pull-up resistor; FPGAVendor: Actel; Published: 21-Jul-2004; Publisher: Altium Limited; HelpURL: http://www.actel.com/documents/PA_libguide.pdf
pins: A (in), D (in), DE (in), EN (in), GL (out), PAD (io), Y (out)

## GLMIOB25LPHL
designator U?
2.5 Volt CMOS input levels, low power, high strength, low slew; FPGAVendor: Actel; Published: 21-Jul-2004; Publisher: Altium Limited; HelpURL: http://www.actel.com/documents/PA_libguide.pdf
pins: A (in), D (in), DE (in), EN (in), GL (out), PAD (io), Y (out)

## GLMIOB25LPHLU
designator U?
2.5 Volt CMOS input levels, low power, high strength, low slew, w/ pull-up resistor; FPGAVendor: Actel; Published: 21-Jul-2004; Publisher: Altium Limited; HelpURL: http://www.actel.com/documents/PA_libguide.pdf
pins: A (in), D (in), DE (in), EN (in), GL (out), PAD (io), Y (out)

## GLMIOB25LPHN
designator U?
2.5 Volt CMOS input levels, low power, high strength, normal slew; FPGAVendor: Actel; Published: 21-Jul-2004; Publisher: Altium Limited; HelpURL: http://www.actel.com/documents/PA_libguide.pdf
pins: A (in), D (in), DE (in), EN (in), GL (out), PAD (io), Y (out)

## GLMIOB25LPHNU
designator U?
2.5 Volt CMOS input levels, low power, high strength, normal slew, w/ pull-up resistor; FPGAVendor: Actel; Published: 21-Jul-2004; Publisher: Altium Limited; HelpURL: http://www.actel.com/documents/PA_libguide.pdf
pins: A (in), D (in), DE (in), EN (in), GL (out), PAD (io), Y (out)

## GLMIOB25LPLH
designator U?
2.5 Volt CMOS input levels, low power, low strength, high slew; FPGAVendor: Actel; Published: 21-Jul-2004; Publisher: Altium Limited; HelpURL: http://www.actel.com/documents/PA_libguide.pdf
pins: A (in), D (in), DE (in), EN (in), GL (out), PAD (io), Y (out)

## GLMIOB25LPLHU
designator U?
2.5 Volt CMOS input levels, low power, low strength, high slew, w/ pull-up resistor; FPGAVendor: Actel; Published: 21-Jul-2004; Publisher: Altium Limited; HelpURL: http://www.actel.com/documents/PA_libguide.pdf
pins: A (in), D (in), DE (in), EN (in), GL (out), PAD (io), Y (out)

## GLMIOB25LPLL
designator U?
2.5 Volt CMOS input levels, low power, low strength, low slew; FPGAVendor: Actel; Published: 21-Jul-2004; Publisher: Altium Limited; HelpURL: http://www.actel.com/documents/PA_libguide.pdf
pins: A (in), D (in), DE (in), EN (in), GL (out), PAD (io), Y (out)

## GLMIOB25LPLLU
designator U?
2.5 Volt CMOS input levels, low power, low strength, low slew, w/ pull-up resistor; FPGAVendor: Actel; Published: 21-Jul-2004; Publisher: Altium Limited; HelpURL: http://www.actel.com/documents/PA_libguide.pdf
pins: A (in), D (in), DE (in), EN (in), GL (out), PAD (io), Y (out)

## GLMIOB25LPLN
designator U?
2.5 Volt CMOS input levels, low power, low strength, normal slew; FPGAVendor: Actel; Published: 21-Jul-2004; Publisher: Altium Limited; HelpURL: http://www.actel.com/documents/PA_libguide.pdf
pins: A (in), D (in), DE (in), EN (in), GL (out), PAD (io), Y (out)

## GLMIOB25LPLNU
designator U?
2.5 Volt CMOS input levels, low power, low strength, normal slew, w/ pull-up resistor; FPGAVendor: Actel; Published: 21-Jul-2004; Publisher: Altium Limited; HelpURL: http://www.actel.com/documents/PA_libguide.pdf
pins: A (in), D (in), DE (in), EN (in), GL (out), PAD (io), Y (out)

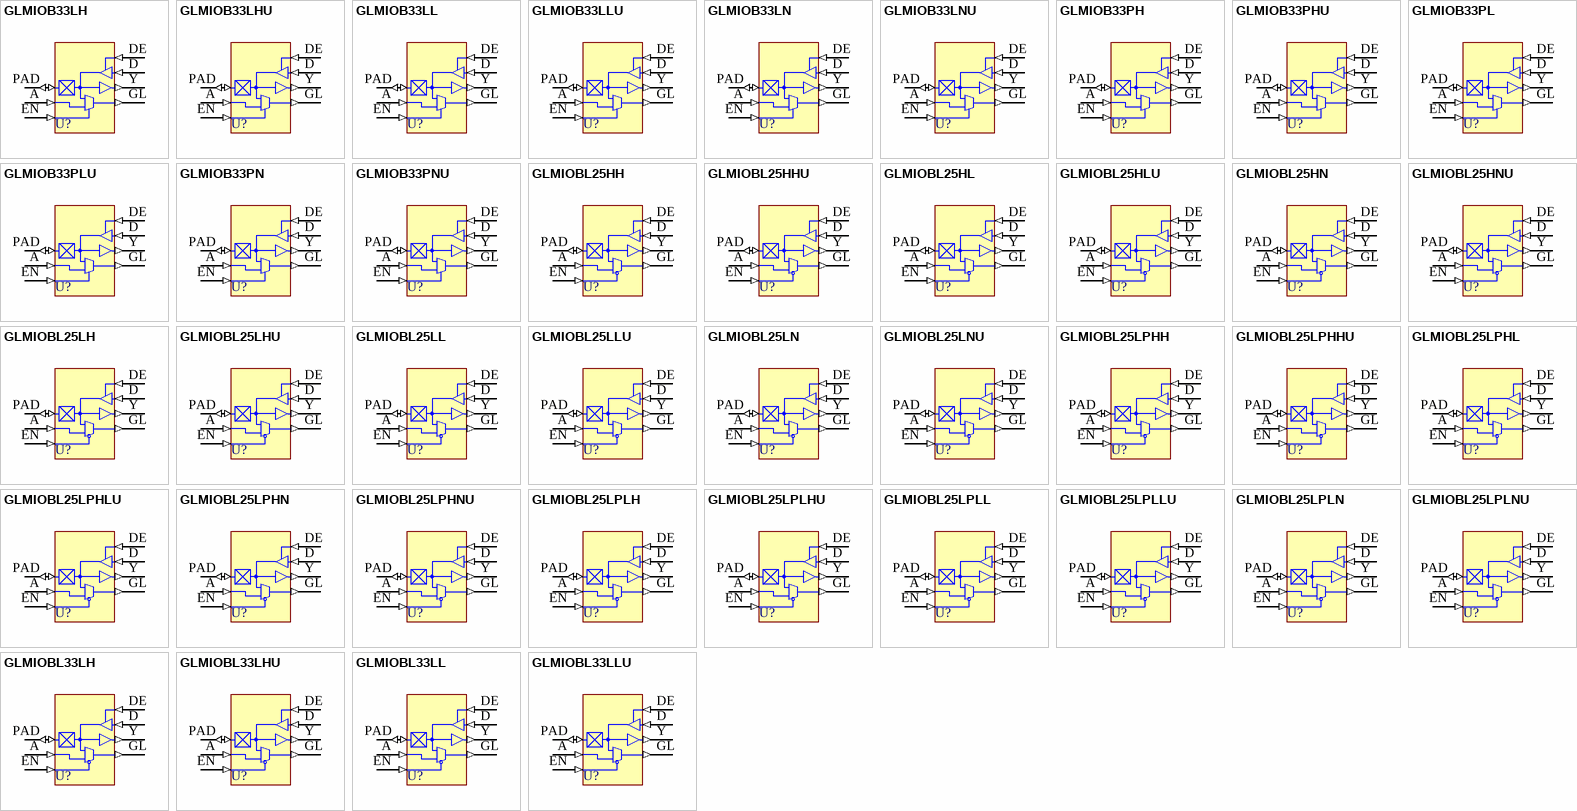
[diagram p3: symbols GLMIOB33LH to GLMIOBL33LLU]

## GLMIOB33LH
designator U?
3.3 Volt CMOS input levels, low power, high slew; FPGAVendor: Actel; Published: 21-Jul-2004; Publisher: Altium Limited; HelpURL: http://www.actel.com/documents/PA_libguide.pdf
pins: A (in), D (in), DE (in), EN (in), GL (out), PAD (io), Y (out)

## GLMIOB33LHU
designator U?
3.3 Volt CMOS input levels, low power, high slew, w/ pull-up resistor; FPGAVendor: Actel; Published: 21-Jul-2004; Publisher: Altium Limited; HelpURL: http://www.actel.com/documents/PA_libguide.pdf
pins: A (in), D (in), DE (in), EN (in), GL (out), PAD (io), Y (out)

## GLMIOB33LL
designator U?
3.3 Volt CMOS input levels, low power, low slew; FPGAVendor: Actel; Published: 21-Jul-2004; Publisher: Altium Limited; HelpURL: http://www.actel.com/documents/PA_libguide.pdf
pins: A (in), D (in), DE (in), EN (in), GL (out), PAD (io), Y (out)

## GLMIOB33LLU
designator U?
3.3 Volt CMOS input levels, low power, low slew, w/ pull-up resistor; FPGAVendor: Actel; Published: 21-Jul-2004; Publisher: Altium Limited; HelpURL: http://www.actel.com/documents/PA_libguide.pdf
pins: A (in), D (in), DE (in), EN (in), GL (out), PAD (io), Y (out)

## GLMIOB33LN
designator U?
3.3 Volt CMOS input levels, low power, normal slew; FPGAVendor: Actel; Published: 21-Jul-2004; Publisher: Altium Limited; HelpURL: http://www.actel.com/documents/PA_libguide.pdf
pins: A (in), D (in), DE (in), EN (in), GL (out), PAD (io), Y (out)

## GLMIOB33LNU
designator U?
3.3 Volt CMOS input levels, low power, normal slew, w/ pull up resistor; FPGAVendor: Actel; Published: 21-Jul-2004; Publisher: Altium Limited; HelpURL: http://www.actel.com/documents/PA_libguide.pdf
pins: A (in), D (in), DE (in), EN (in), GL (out), PAD (io), Y (out)

## GLMIOB33PH
designator U?
3.3 Volt CMOS input levels, PCI compliant, high slew; FPGAVendor: Actel; Published: 21-Jul-2004; Publisher: Altium Limited; HelpURL: http://www.actel.com/documents/PA_libguide.pdf
pins: A (in), D (in), DE (in), EN (in), GL (out), PAD (io), Y (out)

## GLMIOB33PHU
designator U?
3.3 Volt CMOS input levels, PCI compliant, high slew, w/ pull-up resistor; FPGAVendor: Actel; Published: 21-Jul-2004; Publisher: Altium Limited; HelpURL: http://www.actel.com/documents/PA_libguide.pdf
pins: A (in), D (in), DE (in), EN (in), GL (out), PAD (io), Y (out)

## GLMIOB33PL
designator U?
3.3 Volt CMOS input levels, PCI compliant, low slew; FPGAVendor: Actel; Published: 21-Jul-2004; Publisher: Altium Limited; HelpURL: http://www.actel.com/documents/PA_libguide.pdf
pins: A (in), D (in), DE (in), EN (in), GL (out), PAD (io), Y (out)

## GLMIOB33PLU
designator U?
3.3 Volt CMOS input levels, PCI compliant, low slew, w/ pull-up resistor; FPGAVendor: Actel; Published: 21-Jul-2004; Publisher: Altium Limited; HelpURL: http://www.actel.com/documents/PA_libguide.pdf
pins: A (in), D (in), DE (in), EN (in), GL (out), PAD (io), Y (out)

## GLMIOB33PN
designator U?
3.3 Volt CMOS input levels, PCI compliant, normal slew; FPGAVendor: Actel; Published: 21-Jul-2004; Publisher: Altium Limited; HelpURL: http://www.actel.com/documents/PA_libguide.pdf
pins: A (in), D (in), DE (in), EN (in), GL (out), PAD (io), Y (out)

## GLMIOB33PNU
designator U?
3.3 Volt CMOS input levels, PCI compliant, normal slew, w/ pull-up resistor; FPGAVendor: Actel; Published: 21-Jul-2004; Publisher: Altium Limited; HelpURL: http://www.actel.com/documents/PA_libguide.pdf
pins: A (in), D (in), DE (in), EN (in), GL (out), PAD (io), Y (out)

## GLMIOBL25HH
designator U?
2.5 Volt CMOS input levels, high power, high slew; FPGAVendor: Actel; Published: 21-Jul-2004; Publisher: Altium Limited; HelpURL: http://www.actel.com/documents/PA_libguide.pdf
pins: A (in), D (in), DE (in), EN (in), GL (out), PAD (io), Y (out)

## GLMIOBL25HHU
designator U?
2.5 Volt CMOS input levels, high power, high slew, w/ pull-up resistor; FPGAVendor: Actel; Published: 21-Jul-2004; Publisher: Altium Limited; HelpURL: http://www.actel.com/documents/PA_libguide.pdf
pins: A (in), D (in), DE (in), EN (in), GL (out), PAD (io), Y (out)

## GLMIOBL25HL
designator U?
2.5 Volt CMOS input levels, high power, low slew; FPGAVendor: Actel; Published: 21-Jul-2004; Publisher: Altium Limited; HelpURL: http://www.actel.com/documents/PA_libguide.pdf
pins: A (in), D (in), DE (in), EN (in), GL (out), PAD (io), Y (out)

## GLMIOBL25HLU
designator U?
2.5 Volt CMOS input levels, high power, low slew, w/ pull-up resistor; FPGAVendor: Actel; Published: 21-Jul-2004; Publisher: Altium Limited; HelpURL: http://www.actel.com/documents/PA_libguide.pdf
pins: A (in), D (in), DE (in), EN (in), GL (out), PAD (io), Y (out)

## GLMIOBL25HN
designator U?
2.5 Volt CMOS input levels, high power, normal slew; FPGAVendor: Actel; Published: 21-Jul-2004; Publisher: Altium Limited; HelpURL: http://www.actel.com/documents/PA_libguide.pdf
pins: A (in), D (in), DE (in), EN (in), GL (out), PAD (io), Y (out)

## GLMIOBL25HNU
designator U?
2.5 Volt CMOS input levels, high power, normal slew, w/ pull-up resistor; FPGAVendor: Actel; Published: 21-Jul-2004; Publisher: Altium Limited; HelpURL: http://www.actel.com/documents/PA_libguide.pdf
pins: A (in), D (in), DE (in), EN (in), GL (out), PAD (io), Y (out)

## GLMIOBL25LH
designator U?
2.5 Volt CMOS input levels, low power, high slew; FPGAVendor: Actel; Published: 21-Jul-2004; Publisher: Altium Limited; HelpURL: http://www.actel.com/documents/PA_libguide.pdf
pins: A (in), D (in), DE (in), EN (in), GL (out), PAD (io), Y (out)

## GLMIOBL25LHU
designator U?
2.5 Volt CMOS input levels, low power, high slew, w/ pull-up resistor; FPGAVendor: Actel; Published: 21-Jul-2004; Publisher: Altium Limited; HelpURL: http://www.actel.com/documents/PA_libguide.pdf
pins: A (in), D (in), DE (in), EN (in), GL (out), PAD (io), Y (out)

## GLMIOBL25LL
designator U?
2.5 Volt CMOS input levels, low power, low slew; FPGAVendor: Actel; Published: 21-Jul-2004; Publisher: Altium Limited; HelpURL: http://www.actel.com/documents/PA_libguide.pdf
pins: A (in), D (in), DE (in), EN (in), GL (out), PAD (io), Y (out)

## GLMIOBL25LLU
designator U?
2.5 Volt CMOS input levels, low power, low slew, w/ pull-up resistor; FPGAVendor: Actel; Published: 21-Jul-2004; Publisher: Altium Limited; HelpURL: http://www.actel.com/documents/PA_libguide.pdf
pins: A (in), D (in), DE (in), EN (in), GL (out), PAD (io), Y (out)

## GLMIOBL25LN
designator U?
2.5 Volt CMOS input levels, low power, normal slew; FPGAVendor: Actel; Published: 21-Jul-2004; Publisher: Altium Limited; HelpURL: http://www.actel.com/documents/PA_libguide.pdf
pins: A (in), D (in), DE (in), EN (in), GL (out), PAD (io), Y (out)

## GLMIOBL25LNU
designator U?
2.5 Volt CMOS input levels, low power, normal slew, w/ pull up resistor; FPGAVendor: Actel; Published: 21-Jul-2004; Publisher: Altium Limited; HelpURL: http://www.actel.com/documents/PA_libguide.pdf
pins: A (in), D (in), DE (in), EN (in), GL (out), PAD (io), Y (out)

## GLMIOBL25LPHH
designator U?
2.5 Volt CMOS input levels, low power, high strength, high slew; FPGAVendor: Actel; Published: 21-Jul-2004; Publisher: Altium Limited; HelpURL: http://www.actel.com/documents/PA_libguide.pdf
pins: A (in), D (in), DE (in), EN (in), GL (out), PAD (io), Y (out)

## GLMIOBL25LPHHU
designator U?
2.5 Volt CMOS input levels, low power, high strength, high slew, w/ pull-up resistor; FPGAVendor: Actel; Published: 21-Jul-2004; Publisher: Altium Limited; HelpURL: http://www.actel.com/documents/PA_libguide.pdf
pins: A (in), D (in), DE (in), EN (in), GL (out), PAD (io), Y (out)

## GLMIOBL25LPHL
designator U?
2.5 Volt CMOS input levels, low power, high strength, low slew; FPGAVendor: Actel; Published: 21-Jul-2004; Publisher: Altium Limited; HelpURL: http://www.actel.com/documents/PA_libguide.pdf
pins: A (in), D (in), DE (in), EN (in), GL (out), PAD (io), Y (out)

## GLMIOBL25LPHLU
designator U?
2.5 Volt CMOS input levels, low power, high strength, low slew, w/ pull-up resistor; FPGAVendor: Actel; Published: 21-Jul-2004; Publisher: Altium Limited; HelpURL: http://www.actel.com/documents/PA_libguide.pdf
pins: A (in), D (in), DE (in), EN (in), GL (out), PAD (io), Y (out)

## GLMIOBL25LPHN
designator U?
2.5 Volt CMOS input levels, low power, high strength, normal slew; FPGAVendor: Actel; Published: 21-Jul-2004; Publisher: Altium Limited; HelpURL: http://www.actel.com/documents/PA_libguide.pdf
pins: A (in), D (in), DE (in), EN (in), GL (out), PAD (io), Y (out)

## GLMIOBL25LPHNU
designator U?
2.5 Volt CMOS input levels, low power, high strength, normal slew, w/ pull-up resistor; FPGAVendor: Actel; Published: 21-Jul-2004; Publisher: Altium Limited; HelpURL: http://www.actel.com/documents/PA_libguide.pdf
pins: A (in), D (in), DE (in), EN (in), GL (out), PAD (io), Y (out)

## GLMIOBL25LPLH
designator U?
2.5 Volt CMOS input levels, low power, low strength, high slew; FPGAVendor: Actel; Published: 21-Jul-2004; Publisher: Altium Limited; HelpURL: http://www.actel.com/documents/PA_libguide.pdf
pins: A (in), D (in), DE (in), EN (in), GL (out), PAD (io), Y (out)

## GLMIOBL25LPLHU
designator U?
2.5 Volt CMOS input levels, low power, low strength, high slew, w/ pull-up resistor; FPGAVendor: Actel; Published: 21-Jul-2004; Publisher: Altium Limited; HelpURL: http://www.actel.com/documents/PA_libguide.pdf
pins: A (in), D (in), DE (in), EN (in), GL (out), PAD (io), Y (out)

## GLMIOBL25LPLL
designator U?
2.5 Volt CMOS input levels, low power, low strength, low slew; FPGAVendor: Actel; Published: 21-Jul-2004; Publisher: Altium Limited; HelpURL: http://www.actel.com/documents/PA_libguide.pdf
pins: A (in), D (in), DE (in), EN (in), GL (out), PAD (io), Y (out)

## GLMIOBL25LPLLU
designator U?
2.5 Volt CMOS input levels, low power, low strength, low slew, w/ pull-up resistor; FPGAVendor: Actel; Published: 21-Jul-2004; Publisher: Altium Limited; HelpURL: http://www.actel.com/documents/PA_libguide.pdf
pins: A (in), D (in), DE (in), EN (in), GL (out), PAD (io), Y (out)

## GLMIOBL25LPLN
designator U?
2.5 Volt CMOS input levels, low power, low strength, normal slew; FPGAVendor: Actel; Published: 21-Jul-2004; Publisher: Altium Limited; HelpURL: http://www.actel.com/documents/PA_libguide.pdf
pins: A (in), D (in), DE (in), EN (in), GL (out), PAD (io), Y (out)

## GLMIOBL25LPLNU
designator U?
2.5 Volt CMOS input levels, low power, low strength, normal slew, w/ pull-up resistor; FPGAVendor: Actel; Published: 21-Jul-2004; Publisher: Altium Limited; HelpURL: http://www.actel.com/documents/PA_libguide.pdf
pins: A (in), D (in), DE (in), EN (in), GL (out), PAD (io), Y (out)

## GLMIOBL33LH
designator U?
3.3 Volt CMOS input levels, low power, high slew; FPGAVendor: Actel; Published: 21-Jul-2004; Publisher: Altium Limited; HelpURL: http://www.actel.com/documents/PA_libguide.pdf
pins: A (in), D (in), DE (in), EN (in), GL (out), PAD (io), Y (out)

## GLMIOBL33LHU
designator U?
3.3 Volt CMOS input levels, low power, high slew, w/ pull-up resistor; FPGAVendor: Actel; Published: 21-Jul-2004; Publisher: Altium Limited; HelpURL: http://www.actel.com/documents/PA_libguide.pdf
pins: A (in), D (in), DE (in), EN (in), GL (out), PAD (io), Y (out)

## GLMIOBL33LL
designator U?
3.3 Volt CMOS input levels, low power, low slew; FPGAVendor: Actel; Published: 21-Jul-2004; Publisher: Altium Limited; HelpURL: http://www.actel.com/documents/PA_libguide.pdf
pins: A (in), D (in), DE (in), EN (in), GL (out), PAD (io), Y (out)

## GLMIOBL33LLU
designator U?
3.3 Volt CMOS input levels, low power, low slew, w/ pull-up resistor; FPGAVendor: Actel; Published: 21-Jul-2004; Publisher: Altium Limited; HelpURL: http://www.actel.com/documents/PA_libguide.pdf
pins: A (in), D (in), DE (in), EN (in), GL (out), PAD (io), Y (out)

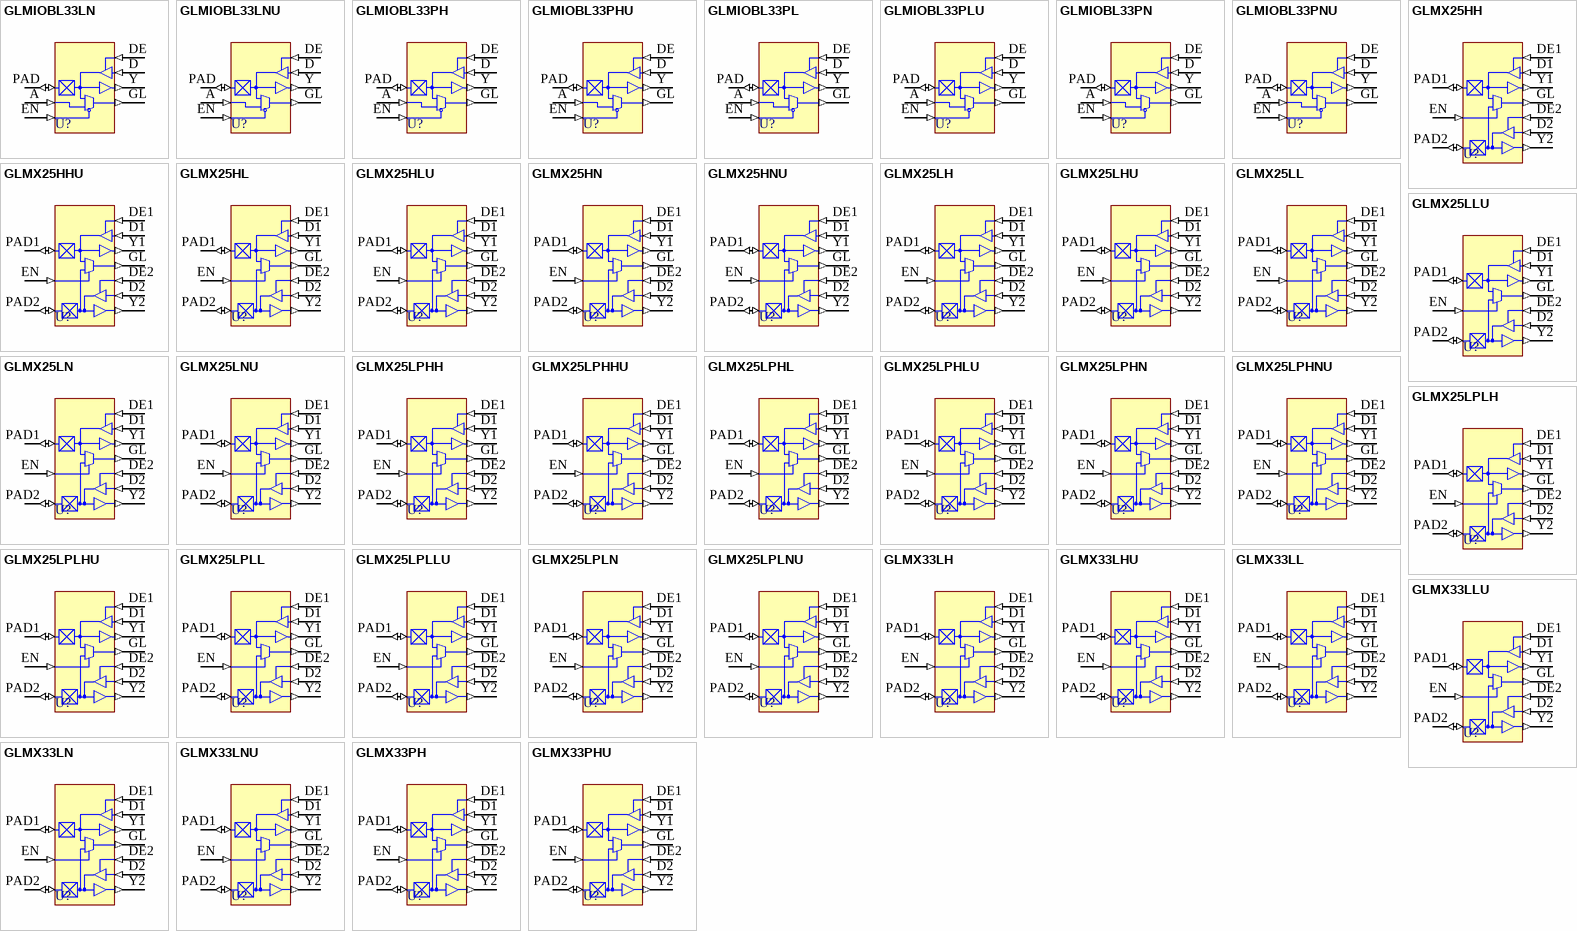
[diagram p4: symbols GLMIOBL33LN to GLMX33PHU]

## GLMIOBL33LN
designator U?
3.3 Volt CMOS input levels, low power, normal slew; FPGAVendor: Actel; Published: 21-Jul-2004; Publisher: Altium Limited; HelpURL: http://www.actel.com/documents/PA_libguide.pdf
pins: A (in), D (in), DE (in), EN (in), GL (out), PAD (io), Y (out)

## GLMIOBL33LNU
designator U?
3.3 Volt CMOS input levels, low power, normal slew, w/ pull up resistor; FPGAVendor: Actel; Published: 21-Jul-2004; Publisher: Altium Limited; HelpURL: http://www.actel.com/documents/PA_libguide.pdf
pins: A (in), D (in), DE (in), EN (in), GL (out), PAD (io), Y (out)

## GLMIOBL33PH
designator U?
3.3 Volt CMOS input levels, PCI compliant, high slew; FPGAVendor: Actel; Published: 21-Jul-2004; Publisher: Altium Limited; HelpURL: http://www.actel.com/documents/PA_libguide.pdf
pins: A (in), D (in), DE (in), EN (in), GL (out), PAD (io), Y (out)

## GLMIOBL33PHU
designator U?
3.3 Volt CMOS input levels, PCI compliant, high slew, w/ pull-up resistor; FPGAVendor: Actel; Published: 21-Jul-2004; Publisher: Altium Limited; HelpURL: http://www.actel.com/documents/PA_libguide.pdf
pins: A (in), D (in), DE (in), EN (in), GL (out), PAD (io), Y (out)

## GLMIOBL33PL
designator U?
3.3 Volt CMOS input levels, PCI compliant, low slew; FPGAVendor: Actel; Published: 21-Jul-2004; Publisher: Altium Limited; HelpURL: http://www.actel.com/documents/PA_libguide.pdf
pins: A (in), D (in), DE (in), EN (in), GL (out), PAD (io), Y (out)

## GLMIOBL33PLU
designator U?
3.3 Volt CMOS input levels, PCI compliant, low slew, w/ pull-up resistor; FPGAVendor: Actel; Published: 21-Jul-2004; Publisher: Altium Limited; HelpURL: http://www.actel.com/documents/PA_libguide.pdf
pins: A (in), D (in), DE (in), EN (in), GL (out), PAD (io), Y (out)

## GLMIOBL33PN
designator U?
3.3 Volt CMOS input levels, PCI compliant, normal slew; FPGAVendor: Actel; Published: 21-Jul-2004; Publisher: Altium Limited; HelpURL: http://www.actel.com/documents/PA_libguide.pdf
pins: A (in), D (in), DE (in), EN (in), GL (out), PAD (io), Y (out)